# Altium schematic symbol library SCH - SPRING PROBE - SPRING PROBE.SchLib: 1 symbol
Pins are listed as number, name and electrical type; pins without a type are passive.

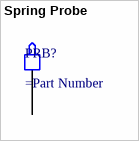
[diagram p0: symbol Spring Probe]

## Spring Probe
designator PRB?
pins: 1